# EAGLE library part SW-CHERRY-MX-BOTH (library switch)
Cherry MX switch, with matrix diode and LED This is not a physically possible switch, but may be useful for layout.
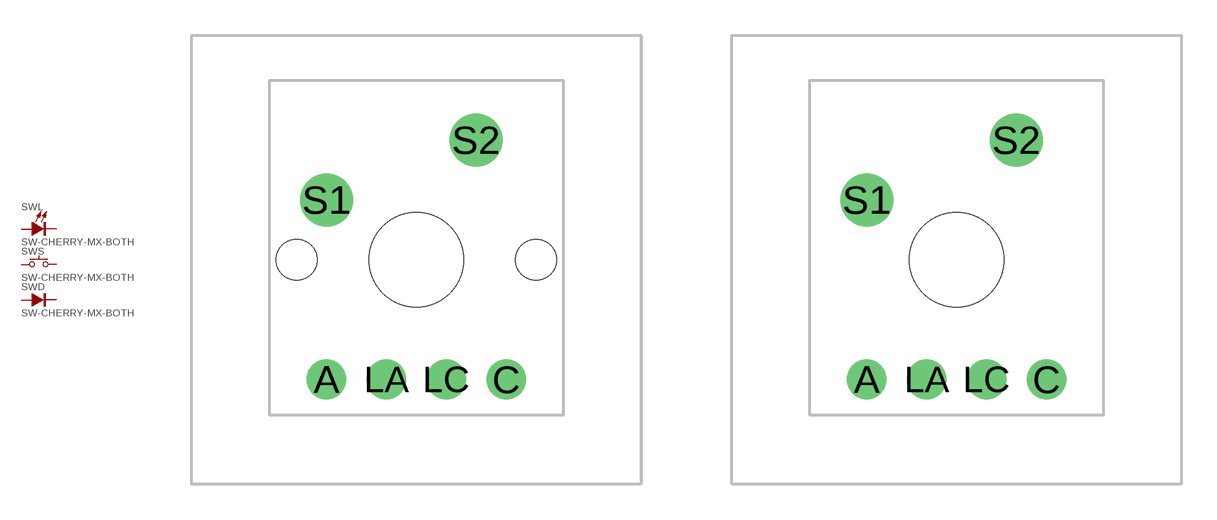
[diagram p0: symbol with the pads of SW-CHERRY-MX-BOTH; footprints SW-CHERRY-MX-BOTH, SW-CHERRY-MX-BOTH-NA]

Designator prefix SW; gates S=SWITCH-SPST-NO-PUSHBUTTON L=LED D=DIODE

## SW-CHERRY-MX-BOTH  [SW-CHERRY-MX-BOTH]
A  D:A  pas
C  D:C  pas
LA  L:A  pas
LC  L:C  pas
S1  S:1  pas
S2  S:2  pas

## SW-CHERRY-MX-BOTH-NA  [SW-CHERRY-MX-BOTH-NA]
Pads as for SW-CHERRY-MX-BOTH

## SW-CHERRY-MX-BOTH-LLRR  [SW-CHERRY-MX-BOTH-SYMM]
A  D:A  pas
C  D:C  pas
LA  L:A  pas
LC  L:C  pas
S1  S:1  pas
S2  S:2  pas
S3  S:1  pas
S4  S:2  pas

## SW-CHERRY-MX-BOTH-LLRR-NA  [SW-CHERRY-MX-BOTH-SYMM-NA]
Pads as for SW-CHERRY-MX-BOTH-SYMM

## SW-CHERRY-MX-BOTH-LRLR  [SW-CHERRY-MX-BOTH-SYMM]
A  D:A  pas
C  D:C  pas
LA  L:A  pas
LC  L:C  pas
S1  S:1  pas
S2  S:2  pas
S3  S:2  pas
S4  S:1  pas

## SW-CHERRY-MX-BOTH-LRLR-NA  [SW-CHERRY-MX-BOTH-SYMM-NA]
Pads as for SW-CHERRY-MX-BOTH-SYMM

## Footprint SW-CHERRY-MX-BOTH (pad centres in mm)
MX, both diodes. Cherry MX switch with holes for both LED and matrix diode. (This is not a possible switch configuration but may be a useful package for flexibility.)
drill 1 pad 1.68: A -3.81,-5.08; C 3.81,-5.08; LA -1.27,-5.08; LC 1.27,-5.08
drill 1.5 pad 2.184: S1 -3.81,2.54; S2 2.54,5.08
hole 4 at 0,0
hole 1.714 at -5.08,0
hole 1.714 at 5.08,0

## Footprint SW-CHERRY-MX-BOTH-NA (pad centres in mm)
MX, both diodes. Cherry MX switch with holes for both LED and matrix diode. (This is not a possible switch configuration but may be a useful package for flexibility.) No alignment holes.
drill 1 pad 1.68: A -3.81,-5.08; C 3.81,-5.08; LA -1.27,-5.08; LC 1.27,-5.08
drill 1.5 pad 2.184: S1 -3.81,2.54; S2 2.54,5.08
hole 4 at 0,0

## Footprint SW-CHERRY-MX-BOTH-SYMM (pad centres in mm)
MX, both diodes. Cherry MX switch with holes for both LED and matrix diode. (This is not a possible switch configuration but may be a useful package for flexibility.) Extra switch pads for reversible PCBs. Alignment holes.
drill 1 pad 1.68: A -3.81,-5.08; C 3.81,-5.08; LA -1.27,-5.08; LC 1.27,-5.08
drill 1.5 pad 2.184: S1 -3.81,2.54; S2 2.54,5.08; S3 -2.54,5.08; S4 3.81,2.54
hole 4 at 0,0
hole 1.714 at -5.08,0
hole 1.714 at 5.08,0

## Footprint SW-CHERRY-MX-BOTH-SYMM-NA (pad centres in mm)
MX, both diodes. Cherry MX switch with holes for both LED and matrix diode. (This is not a possible switch configuration but may be a useful package for flexibility.) Extra switch pads for reversible PCBs. No alignment holes.
drill 1 pad 1.68: A -3.81,-5.08; C 3.81,-5.08; LA -1.27,-5.08; LC 1.27,-5.08
drill 1.5 pad 2.184: S1 -3.81,2.54; S2 2.54,5.08; S3 -2.54,5.08; S4 3.81,2.54
hole 4 at 0,0